# Altium footprint library pads_element_2.PcbLib: 1 footprints
Each footprint in its own frame and in the unit in brackets; x right, y up, seen from the top. Pads: shape width x height; smd on the part's side, far side on the other; paste and mask are expansions set on the pad; w line width, h text height; cw(c..) or ccw(c..) is an arc to the next point about the centre after c.
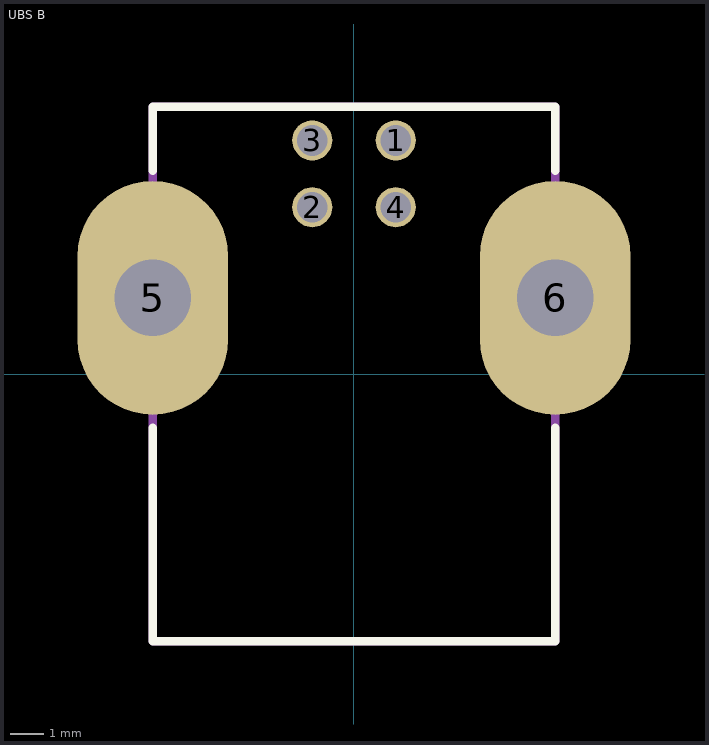
[diagram p0: the footprint, top view; thin cyan lines are the x and y axes]

## UBS B [mm] "USE B port, horizontal"
pads (6):
  round 1.2 hole 0.92 paste+0 mask+0: 1(1.25,6.995) 2(-1.25,4.995) 3(-1.25,6.995) 4(1.25,4.995)
  oval 4.5x7 hole 2.3 paste+0 mask+0: 5(-6.02,2.285) 6(6.02,2.285)
Top Overlay:
  lines w0.254: -6.02,-1.609 -6.02,-7.995 6.02,-7.995 6.02,-1.609 ; -6.02,6.082 -6.02,8.005 6.02,8.005 6.02,6.082
Mechanical 13:
  lines w0.254: -5.949,2.285 -6.02,2.285 ; -6.02,2.285 -6.02,8.005 6.02,8.005 6.02,2.285 6.02,-7.995 -6.02,-7.995 -6.02,2.285
3D body "User Library-Samtec - USB-B-S-X-W-TH.STEP": height 10.6, standoff -4.04, extent -7.349,-8.005 7.449,8.495